# Altium schematic symbol library SCH - DRIVER - LED - TI TPS61023DRL.SchLib: 1 symbol
Pins are listed as number, name and electrical type; pins without a type are passive.

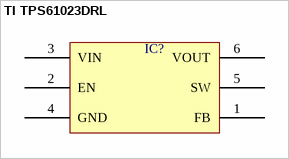
[diagram p0: symbol TI TPS61023DRL]

## TI TPS61023DRL
designator IC?  (value not drawn)
pins: 1 FB, 2 EN, 3 VIN, 4 GND, 5 SW, 6 VOUT